# EAGLE library part SCREWTERM_12P (library ME507)
PHOENIX CONNECTOR
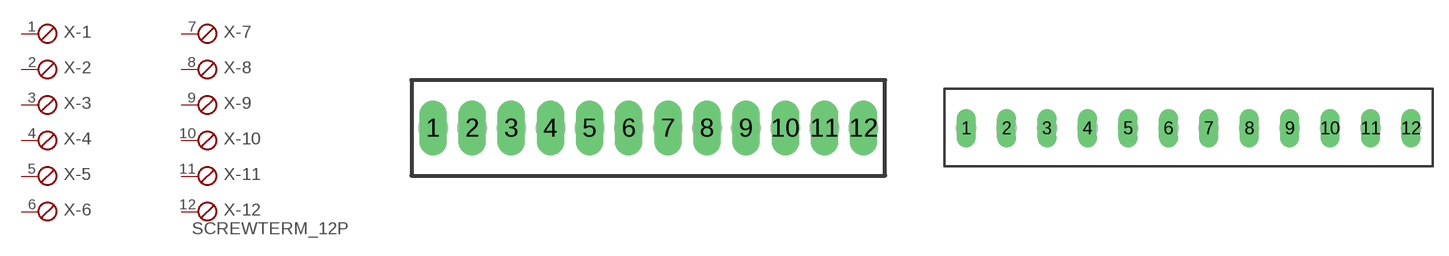
[diagram p5: symbol with the pads of 12POL254; footprints 12POL254, 12POL381]

Designator prefix X; gates -1=SKB -2=SKB -3=SKB -4=SKB -5=SKB -6=SKB -7=SKB -8=SKB -9=SKB -10=SKB -11=SKB -12=SKBV

## SCREWTERM_12P_254  [12POL254]
1  -1:1  pas
2  -2:1  pas
3  -3:1  pas
4  -4:1  pas
5  -5:1  pas
6  -6:1  pas
7  -7:1  pas
8  -8:1  pas
9  -9:1  pas
10  -10:1  pas
11  -11:1  pas
12  -12:1  pas

## SCREWTERM_12P_381  [12POL381]
Pads as for 12POL254

## SCREWTERM_12P_508  [12POL508]
Pads as for 12POL254

## Footprint 12POL254 (pad centres in mm)
PHOENIX CONNECTOR
drill 1.2 long: 1 -13.97,0; 2 -11.43,0; 3 -8.89,0; 4 -6.35,0; 5 -3.81,0; 6 -1.27,0; 7 1.27,0; 8 3.81,0; 9 6.35,0; 10 8.89,0; 11 11.43,0; 12 13.97,0

## Footprint 12POL381 (pad centres in mm)
PHOENIX CONNECTOR
drill 1.2 long: 1 -20.955,0; 2 -17.145,0; 3 -13.335,0; 4 -9.525,0; 5 -5.715,0; 6 -1.905,0; 7 1.905,0; 8 5.715,0; 9 9.525,0; 10 13.335,0; 11 17.145,0; 12 20.955,0

## Footprint 12POL508 (pad centres in mm)
PHOENIX CONNECTOR
drill 1.4 long: 1 -27.94,0; 2 -22.86,0; 3 -17.78,0; 4 -12.7,0; 5 -7.62,0; 6 -2.54,0; 7 2.54,0; 8 7.62,0; 9 12.7,0; 10 17.78,0; 11 22.86,0; 12 27.94,0